# EAGLE library part AT45DB081E-SSHN-B (library AT45DB081E-SSHN-B)
The AT45DB081E DataFlash is a member of our System Enhancing class of code and data storage solutions designed with an advanced dual SRAM buffer architecture that makes it the most efficient memory for data logging. It also incorporates a suite of advanced features that save system power, reduce processor overhead, simplify software development, and provide comprehensive data security and integrity options. Source: Datasheet <https://www.renesas.com/us/en/products/memory-logic/non-volatile-memory/spi-nor-flash/dataflash-spi-memory/at45db081e-8mbit-17-v-36-v-range-spi-serial-flash-memory>
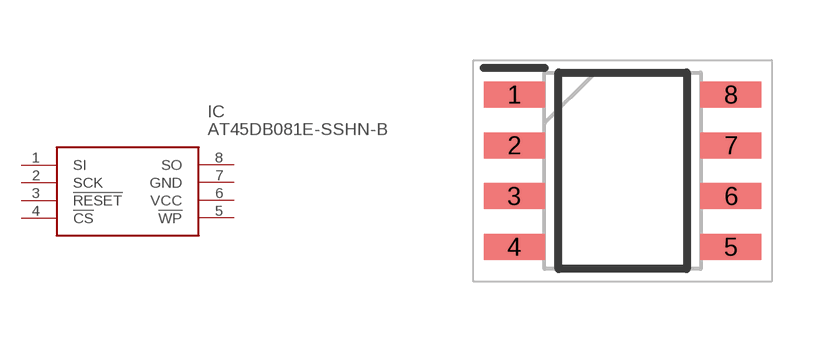
[diagram p0: symbol with the pads of SOIC127P600X175-8N; footprint SOIC127P600X175-8N]

Designator prefix IC

## AT45DB081E-SSHN-B (Description: The AT45DB081E DataFlash is a member of our System Enhancing class of code and data storage solutions designed with an advanced dual SRAM buffer architecture that makes it the most efficient memory for data logging. It also incorporates a suite of advanced features that save system power, reduce processor overhead, simplify software development, and provide comprehensive data security and integrity options.; Height: 1.75mm; Manufacturer_Name: Renesas Electronics; Manufacturer_Part_Number: AT45DB081E-SSHN-B; Mouser_Part_Number: 988-AT45DB081ESSHN-B; Mouser_Price-Stock: https://www.mouser.co.uk/ProductDetail/Renesas-Dialog/AT45DB081E-SSHN-B?qs=IS%252B4QmGtzzqxC8S2FUDu%2Fg%3D%3D)  [SOIC127P600X175-8N]
1  SI
2  SCK
3  !RESET
4  !CS
5  !WP
6  VCC
7  GND
8  SO

## Footprint SOIC127P600X175-8N (pad centres in mm)
8S1
smd 1.525 x 0.65: 1 -2.712,1.905; 2 -2.712,0.635; 3 -2.712,-0.635; 4 -2.712,-1.905; 5 2.712,-1.905; 6 2.712,-0.635; 7 2.712,0.635; 8 2.712,1.905